# Altium integrated library SSM6K202FE_FET.IntLib: 1 symbol
Pins are listed as number, name and electrical type; pins without a type are passive.

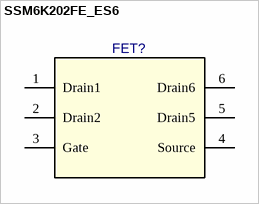
[diagram p0: symbol SSM6K202FE_ES6]

## SSM6K202FE_ES6
designator FET?, comment SSM6K202FE  (value not drawn)
N channel 30V 2.3A ES6; EDM-PN: *; Text2: *; Text1: *; Value: SSM6K202FE; DCE Part No: *; Part Number: SSM6K202FE; Supplier 1: Digi-Key
footprint SOT50P160X60-6N
pins: 1 Drain1 (power), 2 Drain2 (power), 3 Gate (power), 4 Source, 5 Drain5, 6 Drain6